# EAGLE library part TPS54040 (library JLB6_power)
Switch reg TPS54040 0.5A 42V 110µA
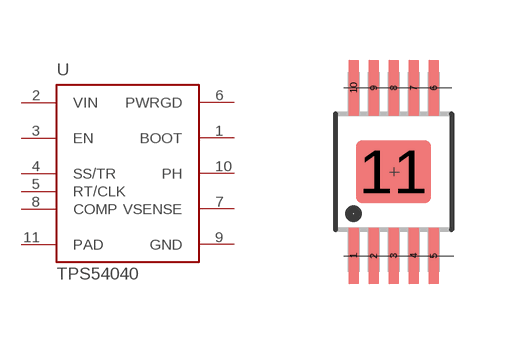
[diagram p8: symbol with the pads of MSOP10PAD; footprint MSOP10PAD]

Designator prefix U

## TPS54040  [MSOP10PAD]
1  BOOT
2  VIN  pwr
3  EN  in
4  SS/TR
5  RT/CLK
6  PWRGD
7  VSENSE  in
8  COMP
9  GND  pwr
10  PH  out
11  PAD  pwr

## Footprint MSOP10PAD (pad centres in mm)
10-Lead microSOIC (RM-10) 10-µSOIC
smd 0.25 x 1.4: 1 -1,-2.1; 2 -0.5,-2.11; 3 0,-2.1; 4 0.5,-2.1; 5 1,-2.1; 6 1,2.1; 7 0.5,2.1; 8 0,2.1; 9 -0.5,2.1; 10 -1,2.1
smd 1.88 x 1.57: 11 0,0